# Altium schematic symbol library on-semi-diode.SchLib: 15 symbols
Pins are listed as number, name and electrical type; pins without a type are passive.

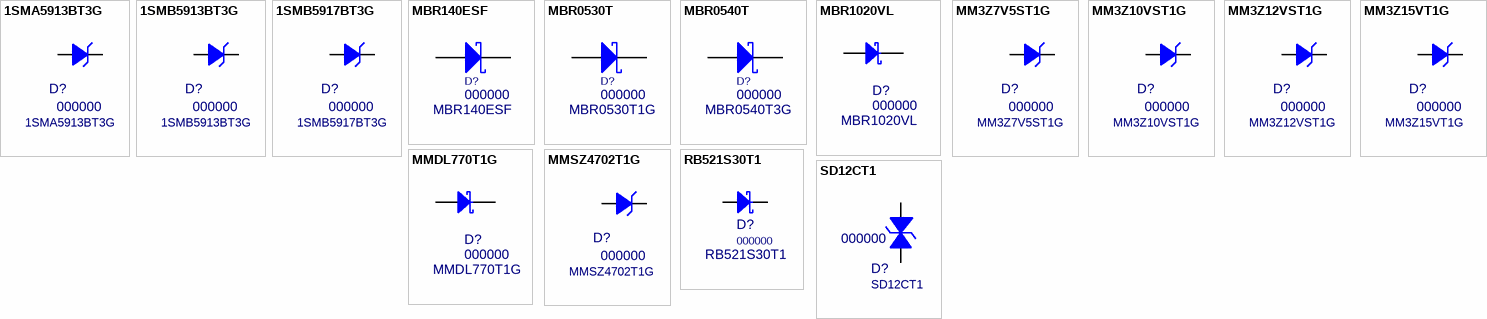
[diagram p0: symbols 1SMA5913BT3G to SD12CT1]

## 1SMA5913BT3G
designator D?, comment 000000  value 1SMA5913BT3G
Zener Diode 5% 3.3V, 1.5W; MF: ON Semiconductor; PN: 000000; Package: SMA; ExtraInfo: *; MF PN: 1SMA5913BT3G
footprint DO-214AC (Molded Diode, 2-Leads, Body 4.3x2.6mm, IPC High Density)
pins: 1 A, 2 K

## 1SMB5913BT3G
designator D?, comment 000000  value 1SMB5913BT3G
Zener Diode 5% 3.3V, 3W; MF: ON Semiconductor; PN: 000000; Package: SMB; ExtraInfo: *; MF PN: 1SMB5913BT3G
footprint DO-214AA (Molded Diode, 2-Leads, Body 4.3x3.6mm, IPC High Density)
pins: 1 A, 2 K

## 1SMB5917BT3G
designator D?, comment 000000  value 1SMB5917BT3G
Zener Diode 5% 4.7V, 3W; MF: ON Semiconductor; PN: 000000; Package: SMB; ExtraInfo: *; MF PN: 1SMB5917BT3G
footprint DO-214AA (Molded Diode, 2-Leads, Body 4.3x3.6mm, IPC High Density)
pins: 1 A, 2 K

## MBR140ESF
designator D?, comment 000000  value MBR140ESF
Schottky Barrier Rectifier 40V 1A; MF: ON Semiconductor; PN: 000000; Package: SOD-123F; ExtraInfo: *; MF PN: MBR140ESF
footprint SOD123F (Molded Diode, 2-Leads, Body 2.6x1.6mm, IPC Medium Density)
simulation model DMBR0530T1 (Model Generated by MODPEX)
pins: 1 A, 2 K

## MBR0530T
designator D?, comment 000000  value MBR0530T1G
Schottky Barrier Rectifier 30V 500mA; MF: ON Semiconductor; PN: 000000; Package: SOD-123; ExtraInfo: *; MF PN: MBR0530T1G
footprint SOD-123 (Molded Diode, 2-Leads)
simulation model DMBR0530T1 (Model Generated by MODPEX)
pins: 1 A, 2 K

## MBR0540T
designator D?, comment 000000  value MBR0540T3G
Schottky Barrier Rectifier 40V 500mA; MF: ON Semiconductor; PN: 000000; Package: SOD-123; ExtraInfo: *; MF PN: MBR0540T3G
footprint SOD-123 (Molded Diode, 2-Leads)
simulation model DMBR0530T1 (Model Generated by MODPEX)
pins: 1 A, 2 K

## MBR1020VL
designator D?, comment 000000  value MBR1020VL
20V 1A Schottky Barrier Diode; MF: ON Semiconductor; PN: 000000; Package: SOD-323; ExtraInfo: *; Digi-Key PN: MBR1020VLTR-ND; MF PN: MBR1020VL
footprint SOD123F (Molded Diode, 2-Leads, Body 2.6x1.6mm, IPC Medium Density)
pins: 1 A, 2 K

## MM3Z7V5ST1G
designator D?, comment 000000  value MM3Z7V5ST1G
Zener Diode 2%, 7.5V, 200mW; MF: ON Semiconductor; PN: 000000; Package: SOD-323; ExtraInfo: *; MF PN: MM3Z7V5ST1G
footprint SOD-323-M (Molded Diode, 2-Leads, Medium Density)
pins: 1 A, 2 K

## MM3Z10VST1G
designator D?, comment 000000  value MM3Z10VST1G
Zener Diode 2%, 10V, 200mW; MF: ON Semiconductor; PN: 000000; Package: SOD-323; ExtraInfo: *; MF PN: MM3Z10VST1G
footprint SOD-323-M (Molded Diode, 2-Leads, Medium Density)
footprint SOD-323-HV (Molded Diode, 2-Leads, Medium Density)
pins: 1 A, 2 K

## MM3Z12VST1G
designator D?, comment 000000  value MM3Z12VST1G
Zener Diode 2%, 12V, 200mW; MF: ON Semiconductor; PN: 000000; Package: SOD-323; ExtraInfo: *; MF PN: MM3Z12VST1G
footprint SOD-323-M (Molded Diode, 2-Leads, Medium Density)
footprint SOD-323-HV (Molded Diode, 2-Leads, Medium Density)
pins: 1 A, 2 K

## MM3Z15VT1G
designator D?, comment 000000  value MM3Z15VT1G
Zener Diode 5% 15V, 300mW; MF: ON Semiconductor; PN: 000000; Package: SOD-323; ExtraInfo: *; MF PN: MM3Z15VT1G
footprint SOD-323-M (Molded Diode, 2-Leads, Medium Density)
footprint SOD-323 (Molded Diode, 2-Leads)
pins: 1 A, 2 K

## MMDL770T1G
designator D?, comment 000000  value MMDL770T1G
70V 200mA Schottky Barrier Diode; MF: ON Semiconductor; PN: 000000; Package: SOD-323; ExtraInfo: *; MF PN: MMDL770T1G
footprint SOD-323-M (Molded Diode, 2-Leads, Medium Density)
pins: 1 A, 2 K

## MMSZ4702T1G
designator D?, comment 000000  value MMSZ4702T1G
Zener Diode 5% 15V, 500mW; MF: ON Semiconductor; PN: 000000; Package: SOD-123; ExtraInfo: *; Digi-Key PN: MMSZ4702T1GOSTR-ND; MF PN: MMSZ4702T1G; Price: 0.05356
footprint SOD-123-M (Molded Diode, 2-Leads)
pins: 1 A, 2 K

## RB521S30T1
designator D?, comment 000000  value RB521S30T1
Schottky Barrier Diode 30V 200mA; MF: ON Semiconductor; PN: 000000; Package: SOD-523; ExtraInfo: *; MF PN: RB521S30T1
footprint SOD-523-M (Molded Diode, 2-Leads - Medium Density)
footprint SOD-523-H (Molded Diode, 2-Leads - High Density)
pins: 1 A, 2 K

## SD12CT1
designator D?, comment 000000  value SD12CT1
Bidirectional Transiet Voltage Suppressor; MF: ON Semiconductor; PN: 000000; Package: SOD323; ExtraInfo: *; MF PN: SD12CT1
footprint SOD-323 (Molded Diode, 2-Leads)
pins: 1 A, 2 K